# Altium footprint library LED 0805.PcbLib: 1 footprints
Each footprint in its own frame and in the unit in brackets; x right, y up, seen from the top. Pads: shape width x height; smd on the part's side, far side on the other; paste and mask are expansions set on the pad; w line width, h text height; cw(c..) or ccw(c..) is an arc to the next point about the centre after c.
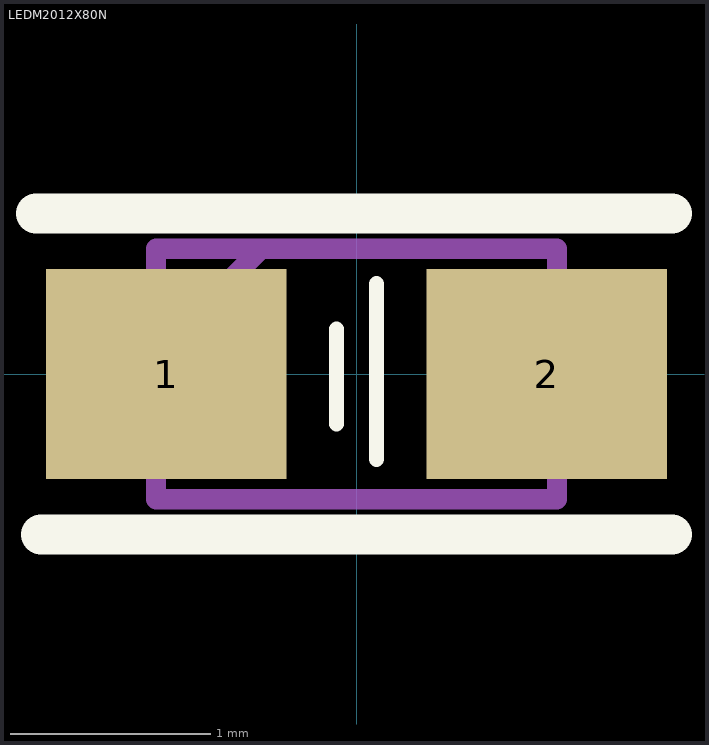
[diagram p0: the footprint, top view; thin cyan lines are the x and y axes]

## LEDM2012X80N [mm]
pads (2):
  rect 1.2x1.05 smd: 1(-0.95,0) 2(0.95,0)
Top Overlay:
  lines w0.076: -0.1,-0.25 -0.1,0.225 ; 0.1,-0.425 0.1,0.45
  lines w0.2: -1.6,0.8 1.575,0.8 ; -1.575,-0.8 1.575,-0.8
Mechanical 13:
  lines w0.1: -1,0.1 -0.475,0.625 ; -1,-0.625 1,-0.625 1,0.625 -1,0.625 -1,-0.625
3D body "LED 0805.STEP": height 0.8, standoff 0, extent -0.9,-0.625 0.9,0.625